# Altium schematic symbol library Battery Chargers.SchLib: 2 symbols
Pins are listed as number, name and electrical type; pins without a type are passive.

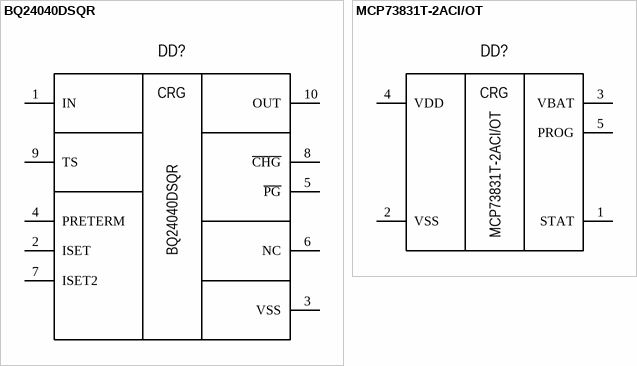
[diagram p0: symbols BQ24040DSQR to MCP73831T-2ACI/OT]

## BQ24040DSQR
designator DD?
Battery Charger Li-ion/Li Polymer; Manufacturer: Texas Instruments; Group: PMIC - Battery Chargers; Charge Current: 1A; Voltage Supply: 28V; Package: WFDFN-10; Part name: BQ24040DSQR; Operating Temperature: -40°C +85°C; Dimension: 2.00mm x 2.00mm; Thickness: 0.80mm
footprint WFDFN-10 (WFDFN-10 2x2x0.9mm)
pins: 1 IN "Charger input supply voltage", 2 ISET "Charger input supply voltage", 3 VSS "Charger input supply voltage", 4 PRETERM "Charger input supply voltage", 5 ~{PG} "Charger input supply voltage", 6 NC "Charger input supply voltage", 7 ISET2 "Charger input supply voltage", 8 ~{CHG} "Charger input supply voltage", 9 TS "Charger input supply voltage", 10 OUT "Charger input supply voltage"
text: CRG

## MCP73831T-2ACI/OT
designator DD?
Battery Charger Li-ion/Li Polymer; Manufacturer: Microchip Technology; Group: PMIC - Battery Chargers; Charge Current: 500mA; Voltage Supply: 6V; Package: SOT-23-5; Part name: MCP73831T-2ACI/OT; Operating Temperature: -40°C +85°C; Dimension: 3.00mm x 3.00mm; Thickness: 1.45mm
footprint SOT-23-5N (Footprint not found)
footprint SOT-23-5L
pins: 1 STAT "Open-drain pin to show charging and inhibit states,  capable of sinking 5mA current", 2 VSS "Ground pin", 3 VBAT "Connection to the battery positive node", 4 VDD "Charger input supply voltage", 5 PROG "Timing capacitor pin for connecting a capacitor to set  internal clocking and charger time reference"
text: CRG